# Altium footprint library urover.PCBLIB: 175 footprints (part 8 of 11)
Each footprint in its own frame and in the unit in brackets; x right, y up, seen from the top. Pads: shape width x height; smd on the part's side, far side on the other; paste and mask are expansions set on the pad; w line width, h text height; cw(c..) or ccw(c..) is an arc to the next point about the centre after c.
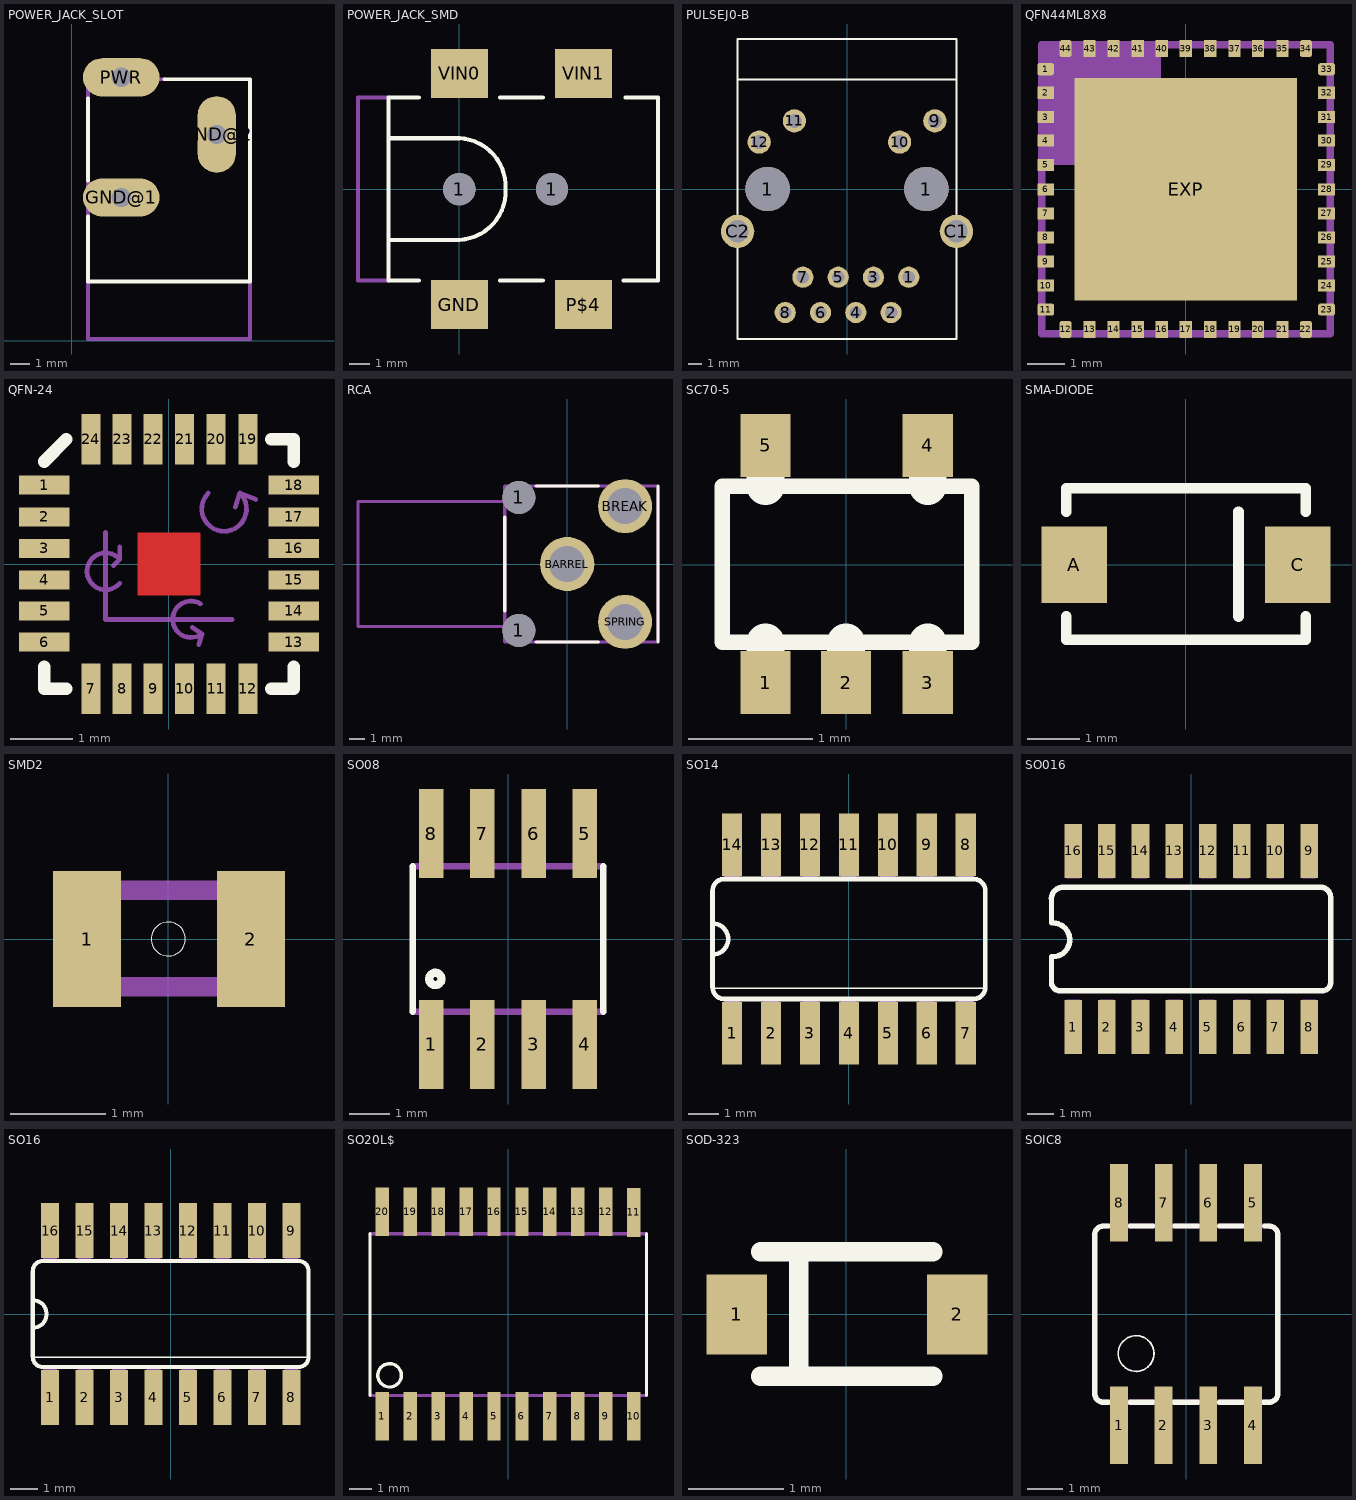
[diagram p7: the footprints below, top view; thin cyan lines are the x and y axes]

## POWER_JACK_SLOT [mil]
pads (3):
  oval 158x79 hole 40: GND@1(102,296) PWR(102,544)
  oval 79x158 hole 40: GND@2(299,426)
Top Overlay:
  lines w8: 33,257 33,123 368,123 ; 33,331 33,500 ; 191,540 368,540 368,123 ; 366,123 368,123
Mechanical 11:
  lines w0: 39,544 165,544 ; 39,544 cw(c58.5,543.5) 59,563 145,563 cw(c145.5,543.5) 165,544 ; 39,544 ccw(c59,544) 59,524 145,524 ccw(c145,544) 165,544 ; 39,296 cw(c58.5,295.5) 59,315 145,315 cw(c145.5,295.5) 165,296 cw(c145,296) 145,276 59,276 cw(c59,296) 39,296 ; 279,382 ccw(c298.5,382.5) 299,363 ccw(c299.5,382.5) 319,382 319,469 ccw(c299,469) 299,489 ccw(c299,469) 279,469 279,382
Mechanical 16:
  lines w8: 33,123 33,4 368,4 368,123 ; 33,258 33,331 ; 33,500 33,540 191,540

## POWER_JACK_SMD [mil]
pads (6):
  round 63 hole 63: 1(0,0) 1(180,0)
  rect 111x95 smd: GND(0,-224.41) P$4(241,-224.41) VIN0(0,225) VIN1(241,225)
Top Overlay:
  lines w8: -78.74,-177.17 -137.8,-177.17 -137.8,-98.43 ; -78.74,178 -137.8,178 -137.8,99 ; 79,-177.17 162,-177.17 ; 79,178 162,178 ; 319,-177.17 386,-177.17 386,178 323,178 ; -137.8,-98.43 -137.8,99 ; -137.8,-98.43 0,-98.43 ccw(c-4.21,-4.21) 90,0 ccw(c-4.5,4.5) 0,99 -137.8,99
Mechanical 16:
  lines w8: -137.8,-177.17 -196.85,-177.17 -196.85,178 -137.8,178

## PULSEJ0-B [mil]
pads (16):
  round 126 hole 126: 1(-225,0) 1(225,0)
  round 60 hole 35: 1(175,-250) 2(125,-350) 3(75,-250) 4(25,-350) 5(-25,-250) 6(-75,-350) 7(-125,-250) 8(-175,-350)
  round 66 hole 40: 9(249,193) 10(149,133) 11(-149,193) 12(-249,133)
  round 94.5 hole 63: C1(310,-120) C2(-310,-120)
Top Overlay:
  lines w5: -310,310 -310,425 310,425 310,310 ; -310,310 -310,-425 310,-425 310,310 ; -310,310 310,310

## QFN44ML8X8 [mil]
pads (45):
  rrect40% 18x13 smd: 1(-149.11,128) 11(-149.11,-127.95) 23(150,-127.95) 33(150,128)
  rect 18x13 smd: 2(-149.11,103) 3(-149.11,77) 4(-149.11,52) 5(-149.11,26) 6(-149.11,0) 7(-149.11,-25.59) 8(-149.11,-51.18) 9(-149.11,-76.77) 10(-149.11,-102.36) 24(150,-102.36) 25(150,-76.77) 26(150,-51.18) 27(150,-25.59) 28(150,0) 29(150,26) 30(150,52) 31(150,77) 32(150,103)
  rrect40% 13x18 smd: 12(-127.95,-149.11) 22(128,-149.11) 34(128,150) 44(-127.95,150)
  rect 13x18 smd: 13(-102.36,-149.11) 14(-76.77,-149.11) 15(-51.18,-149.11) 16(-25.59,-149.11) 17(0,-149.11) 18(26,-149.11) 19(52,-149.11) 20(77,-149.11) 21(103,-149.11) 35(103,150) 36(77,150) 37(52,150) 38(26,150) 39(0,150) 40(-25.59,150) 41(-51.18,150) 42(-76.77,150) 43(-102.36,150)
  rect 237x237 smd: EXP(0,0)
Top Solder:
  rectangle: -159.45,121 -138.78,136
  rectangle: -159.45,95 -138.78,111
  rectangle: -159.45,69 -138.78,85
  rectangle: -159.45,44 -138.78,60
  rectangle: -159.45,18 -138.78,34
  rectangle: -159.45,-7.87 -138.78,8
  rectangle: -159.45,-33.46 -138.78,-17.72
  rectangle: -159.45,-59.06 -138.78,-43.31
  rectangle: -159.45,-84.65 -138.78,-68.9
  rectangle: -159.45,-110.24 -138.78,-94.49
  rectangle: -159.45,-135.83 -138.78,-120.08
  region: -120.08,-159.45 -120.08,-138.78 -135.83,-138.78 -135.83,-159.45
  region: -94.49,-159.45 -94.49,-138.78 -110.24,-138.78 -110.24,-159.45
  region: -68.9,-159.45 -68.9,-138.78 -84.65,-138.78 -84.65,-159.45
  region: -43.31,-159.45 -43.31,-138.78 -59.06,-138.78 -59.06,-159.45
  region: -17.72,-159.45 -17.72,-138.78 -33.46,-138.78 -33.46,-159.45
  region: 8.21,-159.78 8.21,-138.45 -7.54,-138.45 -7.54,-159.78
  region: 33.87,-159.11 33.87,-139.11 18.13,-139.11 18.13,-159.11
  region: 59.37,-159.61 59.37,-138.61 43.63,-138.61 43.63,-159.61
  region: 85.37,-159.61 85.37,-138.61 69.63,-138.61 69.63,-159.61
  region: 110.87,-159.11 110.87,-139.11 95.13,-139.11 95.13,-159.11
  region: 136.37,-159.61 136.37,-138.61 120.63,-138.61 120.63,-159.61
  region: 160,-120.08 139,-120.08 139,-135.83 160,-135.83
  region: 160,-94.49 139,-94.49 139,-110.24 160,-110.24
  region: 160,-68.9 139,-68.9 139,-84.65 160,-84.65
  region: 160,-43.31 139,-43.31 139,-59.06 160,-59.06
  region: 160,-17.72 139,-17.72 139,-33.46 160,-33.46
  region: 160,8 139,8 139,-7.87 160,-7.87
  region: 160,34 139,34 139,18 160,18
  region: 160,60 139,60 139,44 160,44
  region: 160,85 139,85 139,69 160,69
  region: 160,111 139,111 139,95 160,95
  region: 160,136 139,136 139,121 160,121
  region: 121,160 121,139 136,139 136,160
  region: 95.5,159.5 95.5,139.5 110.5,139.5 110.5,159.5
  region: 70,160 70,139 85,139 85,160
  region: 44,160 44,139 59,139 59,160
  region: 18.5,159.5 18.5,139.5 33.5,139.5 33.5,159.5
  region: -7.17,160.17 -7.17,138.83 7.83,138.83 7.83,160.17
  region: -33.09,159.83 -33.09,139.17 -18.09,139.17 -18.09,159.83
  region: -58.68,159.83 -58.68,139.17 -43.68,139.17 -43.68,159.83
  region: -84.27,159.83 -84.27,139.17 -69.27,139.17 -69.27,159.83
  region: -109.86,159.83 -109.86,139.17 -94.86,139.17 -94.86,159.83
  region: -135.45,159.83 -135.45,139.17 -120.45,139.17 -120.45,159.83
  rectangle: -116.63,-116.63 117,117
Mechanical 16:
  rectangle: -151.08,26 -26.08,152
  lines w8: -153.54,-153.54 154,-153.54 154,154 -153.54,154 -153.54,-153.54

## QFN-24 [mil]
pads (24):
  rect 32x12 smd: 1(-78.74,50) 2(-78.74,30) 3(-78.74,10) 4(-78.74,-9.84) 5(-78.74,-29.53) 6(-78.74,-49.21) 13(79,-49.21) 14(79,-29.53) 15(79,-9.84) 16(79,10) 17(79,30) 18(79,50)
  rect 12x32 smd: 7(-49.21,-78.74) 8(-29.53,-78.74) 9(-9.84,-78.74) 10(10,-78.74) 11(30,-78.74) 12(50,-78.74) 19(50,79) 20(30,79) 21(10,79) 22(-9.84,79) 23(-29.53,79) 24(-49.21,79)
Top Layer:
  rectangle: -19.68,-19.68 20,20
Top Overlay:
  lines w8: -78.74,-64.96 -78.74,-78.74 -64.96,-78.74 ; -78.74,65 -64.96,79 ; 65,-78.74 79,-78.74 79,-64.96 ; 65,79 79,79 79,65
Top Solder:
  rectangle: -19.68,-19.68 20,20
Mechanical 16:
  lines w3: -40,20 -40,-35 40,-35 ; -35,-1 -31,3 ; -31,-12 cw(c-40,-4.5) -31,3 ; -31,11 -31,3 ; 15,-40 21,-44 ; 19,-51 21,-44 ; 20,-25 ccw(c14,-34.84) 21,-44 ; 25,45 ccw(c35,35) 45,45 ; 42,36 45,45 ; 55,41 45,45
  text "X" at 44,-47 h24.8
  text "Y" at -48,26 h24.8
  text "Z" at 0,34 h24.8

## RCA [mil]
pads (5):
  round 83 hole 83: 1(-122.05,-167.32) 1(-122.05,168)
  round 136.5 hole 91: BARREL(0,0) BREAK(146,146) SPRING(146,-145.67)
Top Overlay:
  lines w8: -157.48,-118.11 -157.48,119 ; -78.74,-196.85 79,-196.85 ; -78.74,197 79,197 ; 229,-196.85 229,197
Mechanical 16:
  lines w8: -157.48,-157.48 -527.56,-157.48 -527.56,158 -157.48,158 ; -157.48,-196.85 -157.48,197 229,197 229,-196.85 -157.48,-196.85

## SC70-5 [mil]
pads (5):
  rect 16x20 smd: 1(-25.59,-37.4) 2(0,-37.4) 3(26,-37.4) 4(26,38) 5(-25.59,38)
Top Overlay:
  lines w5: -39.37,-24.61 -25.59,-24.61 0,-24.61 26,-24.61 40,-24.61 40,25 26,25 -25.59,25 -39.37,25 -39.37,-24.61
  lines w12: -25.59,-41.34 -25.59,-24.61 ; -25.59,25 -25.59,42 ; 0,-41.34 0,-24.61 ; 26,-41.34 26,-24.61 ; 26,25 26,42

## SMA-DIODE [mil]
pads (2):
  rect 50x58 smd: A(-84.65,0) C(85,0)
Top Overlay:
  lines w8: -90.55,-39.37 -90.55,-57.09 91,-57.09 91,-39.37 ; -90.55,40 -90.55,58 91,58 91,40 ; 40,-39.37 40,40

## SMD2 [mil]
pads (2):
  rect 28x56 smd: 1(-33.46,0) 2(34,0)
Top Overlay:
  circle w0: c0,0 r7
Mechanical 16:
  lines w8: -36.42,-19.68 37,-19.68 37,20 -36.42,20 -36.42,-19.68

## SO08 [mil]
pads (8):
  rect 24x87 smd: 1(-75,-103) 2(-25,-103) 3(25,-103) 4(75,-103) 5(75,103) 6(25,103) 7(-25,103) 8(-75,103)
Top Overlay:
  circle w8: c-71,-39 r6
  lines w6: -92.99,-70.98 -92.99,71 ; 93,-70.98 93,71
Mechanical 16:
  rectangle: -82,-113 -68,-73
  rectangle: -32,-113 -18,-73
  rectangle: 18,-113 32,-73
  rectangle: 68,-113 82,-73
  rectangle: -82,73 -68,113
  rectangle: -32,73 -18,113
  rectangle: 18,73 32,113
  rectangle: 68,73 82,113
  lines w6: -92.99,-70.98 93,-70.98 ; -92.99,71 93,71

## SO14 [mil]
pads (14):
  rect 26x80 smd: 1(-150,-121) 2(-100,-121) 3(-50,-121) 4(0,-121) 5(50,-121) 6(100,-121) 7(150,-121) 8(150,121) 9(100,121) 10(50,121) 11(0,121) 12(-50,121) 13(-100,121) 14(-150,121)
Top Overlay:
  lines w2: -175,-63 175,-63
  lines w6: -175,-20 -175,20 ; -175,-20 -175,-62 ccw(c-160,-62) -160,-77 160,-77 ccw(c160,-62) 175,-62 175,62 ccw(c160,62) 160,77 -160,77 ccw(c-160,62) -175,62 -175,20 ; -175,-20 ccw(c-175,0) -175,20
Mechanical 16:
  rectangle: -10,77 10,122
  rectangle: -160,-122 -140,-77
  rectangle: -110,-122 -90,-77
  rectangle: -60,-121 -40,-76
  rectangle: -10,-122 10,-77
  rectangle: -60,77 -40,122
  rectangle: -110,77 -90,122
  rectangle: -160,77 -140,122
  rectangle: 40,77 60,122
  rectangle: 90,77 110,122
  rectangle: 140,77 160,122
  rectangle: 40,-122 60,-77
  rectangle: 90,-122 110,-77
  rectangle: 140,-122 160,-77

## SO016 [mil]
pads (16):
  rect 26x80 smd: 1(-175,-130.5) 2(-125,-130.5) 3(-75,-130.5) 4(-25,-130.5) 5(25,-130.5) 6(75,-130.5) 7(125,-130.5) 8(175,-130.5) 9(175,131) 10(125,131) 11(75,131) 12(25,131) 13(-25,131) 14(-75,131) 15(-125,131) 16(-175,131)
Top Overlay:
  lines w8: -207,-26 -207,-65.56 ccw(c-193.97,-63.6) -192,-76.63 196,-76.63 ccw(c194,-63.63) 207,-61.63 207,62 ccw(c192,62) 192,77 -192,77 ccw(c-190,60) -207,58 -207,24 ; -205,-26 ccw(c-205,-1) -205,24
Mechanical 16:
  rectangle: -185,-147.5 -165,-89.5
  rectangle: -135,-147.5 -115,-89.5
  rectangle: -85,-147.5 -65,-89.5
  rectangle: -35,-147.5 -15,-89.5
  rectangle: 15,-147.5 35,-89.5
  rectangle: 65,-147.5 85,-89.5
  rectangle: 115,-147.5 135,-89.5
  rectangle: 165,-147.5 185,-89.5
  rectangle: -185,90 -165,148
  rectangle: -135,90 -115,148
  rectangle: -85,90 -65,148
  rectangle: -35,90 -15,148
  rectangle: 15,90 35,148
  rectangle: 65,90 85,148
  rectangle: 115,90 135,148
  rectangle: 165,90 185,148

## SO16 [mil]
pads (16):
  rect 26x80 smd: 1(-175,-121) 2(-125,-121) 3(-75,-121) 4(-25,-121) 5(25,-121) 6(75,-121) 7(125,-121) 8(175,-121) 9(175,121) 10(125,121) 11(75,121) 12(25,121) 13(-25,121) 14(-75,121) 15(-125,121) 16(-175,121)
Top Overlay:
  lines w2: -200,-63 200,-63
  lines w6: -200,-20 -200,20 ; -200,-20 -200,-62 ccw(c-185,-62) -185,-77 185,-77 ccw(c185,-62) 200,-62 200,62 ccw(c185,62) 185,77 -185,77 ccw(c-185,62) -200,62 -200,20 ; -200,-20 ccw(c-200,0) -200,20
Mechanical 16:
  rectangle: -35,77 -15,122
  rectangle: -185,-122 -165,-77
  rectangle: -135,-122 -115,-77
  rectangle: -85,-121 -65,-76
  rectangle: -35,-122 -15,-77
  rectangle: -85,77 -65,122
  rectangle: -135,77 -115,122
  rectangle: -185,77 -165,122
  rectangle: 15,-122 35,-77
  rectangle: 65,-122 85,-77
  rectangle: 115,-122 135,-77
  rectangle: 165,-122 185,-77
  rectangle: 15,77 35,122
  rectangle: 65,77 85,122
  rectangle: 115,77 135,122
  rectangle: 165,77 185,122

## SO20L$ [mil]
pads (20):
  rect 24x87 smd: 1(-225,-182.5) 2(-175,-182.5) 3(-125,-182.5) 4(-75,-182.5) 5(-25,-182.5) 6(25,-182.5) 7(75,-182.5) 8(125,-182.5) 9(175,-182.5) 10(225,-182.5) 11(225,182) 12(175,183) 13(125,183) 14(75,183) 15(25,183) 16(-25,183) 17(-75,183) 18(-125,183) 19(-175,183) 20(-225,183)
Top Overlay:
  circle w6: c-212,-109.5 r21
  lines w6: -247.01,-145.51 -247.01,144 ; 248,-145.51 248,144
Mechanical 16:
  rectangle: 217,146 233,198
  rectangle: 167,146 183,198
  rectangle: 117,146 133,198
  rectangle: 67,146 83,198
  rectangle: 17,146 33,198
  rectangle: -33,146 -17,198
  rectangle: -83,146 -67,198
  rectangle: -133,146 -117,198
  rectangle: -183,146 -167,198
  rectangle: -233,146 -217,198
  rectangle: 217,-199.5 233,-147.5
  rectangle: 167,-199.5 183,-147.5
  rectangle: 117,-199.5 133,-147.5
  rectangle: 67,-199.5 83,-147.5
  rectangle: 17,-199.5 33,-147.5
  rectangle: -33,-199.5 -17,-147.5
  rectangle: -83,-199.5 -67,-147.5
  rectangle: -133,-199.5 -117,-147.5
  rectangle: -183,-199.5 -167,-147.5
  rectangle: -233,-199.5 -217,-147.5
  lines w6: -247.01,-145.51 248,-145.51 ; -247.01,144 248,144

## SOD-323 [mil]
pads (2):
  rect 25x33 smd: 1(-45.28,0) 2(46,0)
Top Overlay:
  lines w8: -35.43,-25.59 -19.68,-25.59 ; -35.43,26 -19.68,26 ; 36,-25.59 -19.68,-25.59 ; 36,26 -19.68,26 ; -19.68,-25.59 -19.68,26

## SOIC8 [mil]
pads (8):
  rect 20x87 smd: 1(-75,-124.17) 2(-25.39,-124.17) 3(25,-124.17) 4(75,-124.17) 5(75,125) 6(25,125) 7(-25,125) 8(-75,125)
Top Overlay:
  circle w2: c-55.91,-43.9 r20
  lines w6: -102.36,-88.58 ccw(c-92.52,-88.58) -92.52,-98.43 ; -102.36,-88.19 -102.36,89 cw(c-92.44,89.08) -92.52,99 ; -92.13,-98.43 -87.01,-98.43 ; -92.13,99 -87.01,99 ; -62.6,-98.43 -37.4,-98.43 ; -62.6,99 -37.4,99 ; -12.99,-98.43 13,-98.43 ; -12.6,99 13,99 ; 38,-98.43 63,-98.43 ; 38,99 63,99 ; 87,-98.43 92,-98.43 ; 88,99 93,99 cw(c93,89) 103,89 103,-88.58 cw(c93.08,-88.5) 93,-98.43
Mechanical 16:
  rectangle: -81.89,99 -68.11,134
  rectangle: -31.89,99 -18.11,134
  rectangle: 19,99 32,134
  rectangle: 69,99 82,134
  rectangle: 68,-133.86 82,-98.43
  rectangle: 18,-133.86 32,-98.43
  rectangle: -32.28,-133.86 -18.5,-98.43
  rectangle: -81.89,-133.86 -68.11,-98.43
  lines w6: -92.13,-98.43 93,-98.43 ; -92.13,99 93,99